# EAGLE library part ISO1541 (library SDSURocket-DigitalIC)
Low-Power Bidirectional I2C Isolator
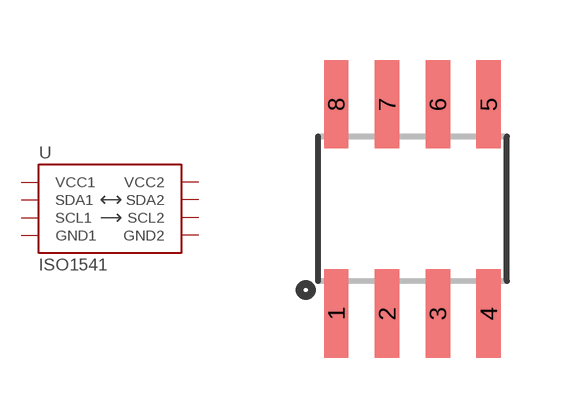
[diagram p0: symbol with the pads of SOIC8; footprint SOIC8]

Designator prefix -

## ISO1541-SOIC  [SOIC8]
1  VCC1  pwr
2  SDA1
3  SCL1  in
4  GND1  pwr
5  GND2  pwr
6  SCL2  out
7  SDA2
8  VCC2  pwr

## Footprint SOIC8 (pad centres in mm)
SOIC 8-Lead
smd 0.61 x 2.21: 1 -1.905,-2.616; 2 -0.635,-2.616; 3 0.635,-2.616; 4 1.905,-2.616; 5 1.905,2.616; 6 0.635,2.616; 7 -0.635,2.616; 8 -1.905,2.616